# EAGLE library part XC9536XL (library custom)
CPLD
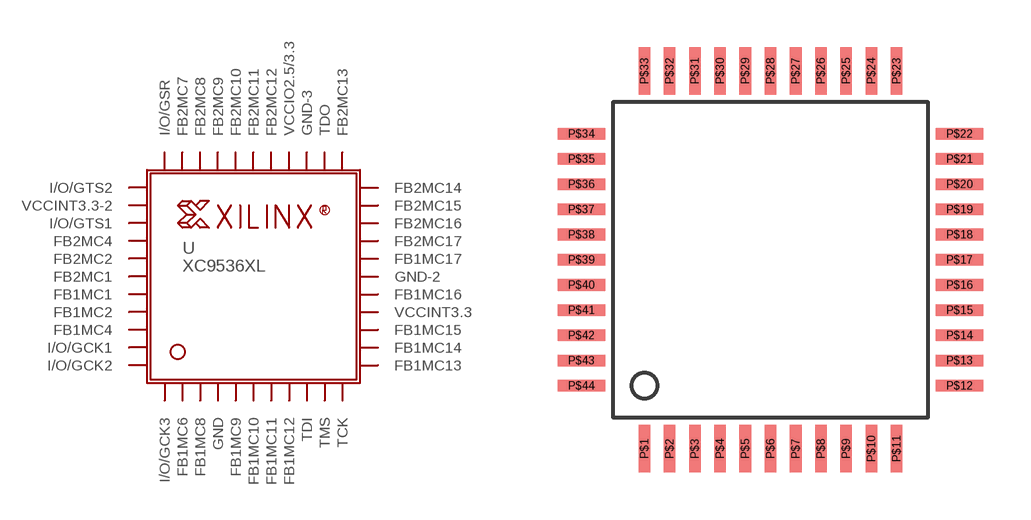
[diagram p0: symbol with the pads of 10VQG44C; footprint 10VQG44C]

Designator prefix -

## XC9536XL  [10VQG44C]
P$1  I/O/GCK3
P$2  FB1MC6
P$3  FB1MC8
P$4  GND
P$5  FB1MC9
P$6  FB1MC10
P$7  FB1MC11
P$8  FB1MC12
P$9  TDI
P$10  TMS
P$11  TCK
P$12  FB1MC13
P$13  FB1MC14
P$14  FB1MC15
P$15  VCCINT3.3
P$16  FB1MC16
P$17  GND-2
P$18  FB1MC17
P$19  FB2MC17
P$20  FB2MC16
P$21  FB2MC15
P$22  FB2MC14
P$23  FB2MC13
P$24  TDO
P$25  GND-3
P$26  VCCIO2.5/3.3
P$27  FB2MC12
P$28  FB2MC11
P$29  FB2MC10
P$30  FB2MC9
P$31  FB2MC8
P$32  FB2MC7
P$33  I/O/GSR
P$34  I/O/GTS2
P$35  VCCINT3.3-2
P$36  I/O/GTS1
P$37  FB2MC4
P$38  FB2MC2
P$39  FB2MC1
P$40  FB1MC1
P$41  FB1MC2
P$42  FB1MC4
P$43  I/O/GCK1
P$44  I/O/GCK2

## Footprint 10VQG44C (pad centres in mm)
smd 0.37 x 1.5: P$1 -4,-6; P$2 -3.2,-6; P$3 -2.4,-6; P$4 -1.6,-6; P$5 -0.8,-6; P$6 0,-6; P$7 0.8,-6; P$8 1.6,-6; P$9 2.4,-6; P$10 3.2,-6; P$11 4,-6; P$23 4,6; P$24 3.2,6; P$25 2.4,6; P$26 1.6,6; P$27 0.8,6; P$28 0,6; P$29 -0.8,6; P$30 -1.6,6; P$31 -2.4,6; P$32 -3.2,6; P$33 -4,6
smd 1.5 x 0.37: P$12 6,-4; P$13 6,-3.2; P$14 6,-2.4; P$15 6,-1.6; P$16 6,-0.8; P$17 6,0; P$18 6,0.8; P$19 6,1.6; P$20 6,2.4; P$21 6,3.2; P$22 6,4; P$34 -6,4; P$35 -6,3.2; P$36 -6,2.4; P$37 -6,1.6; P$38 -6,0.8; P$39 -6,0; P$40 -6,-0.8; P$41 -6,-1.6; P$42 -6,-2.4; P$43 -6,-3.2; P$44 -6,-4